# Altium footprint library Posadochnye_mesta.pcblib: 20 footprints (part 1 of 2)
Each footprint in its own frame and in the unit in brackets; x right, y up, seen from the top. Pads: shape width x height; smd on the part's side, far side on the other; paste and mask are expansions set on the pad; w line width, h text height; cw(c..) or ccw(c..) is an arc to the next point about the centre after c.
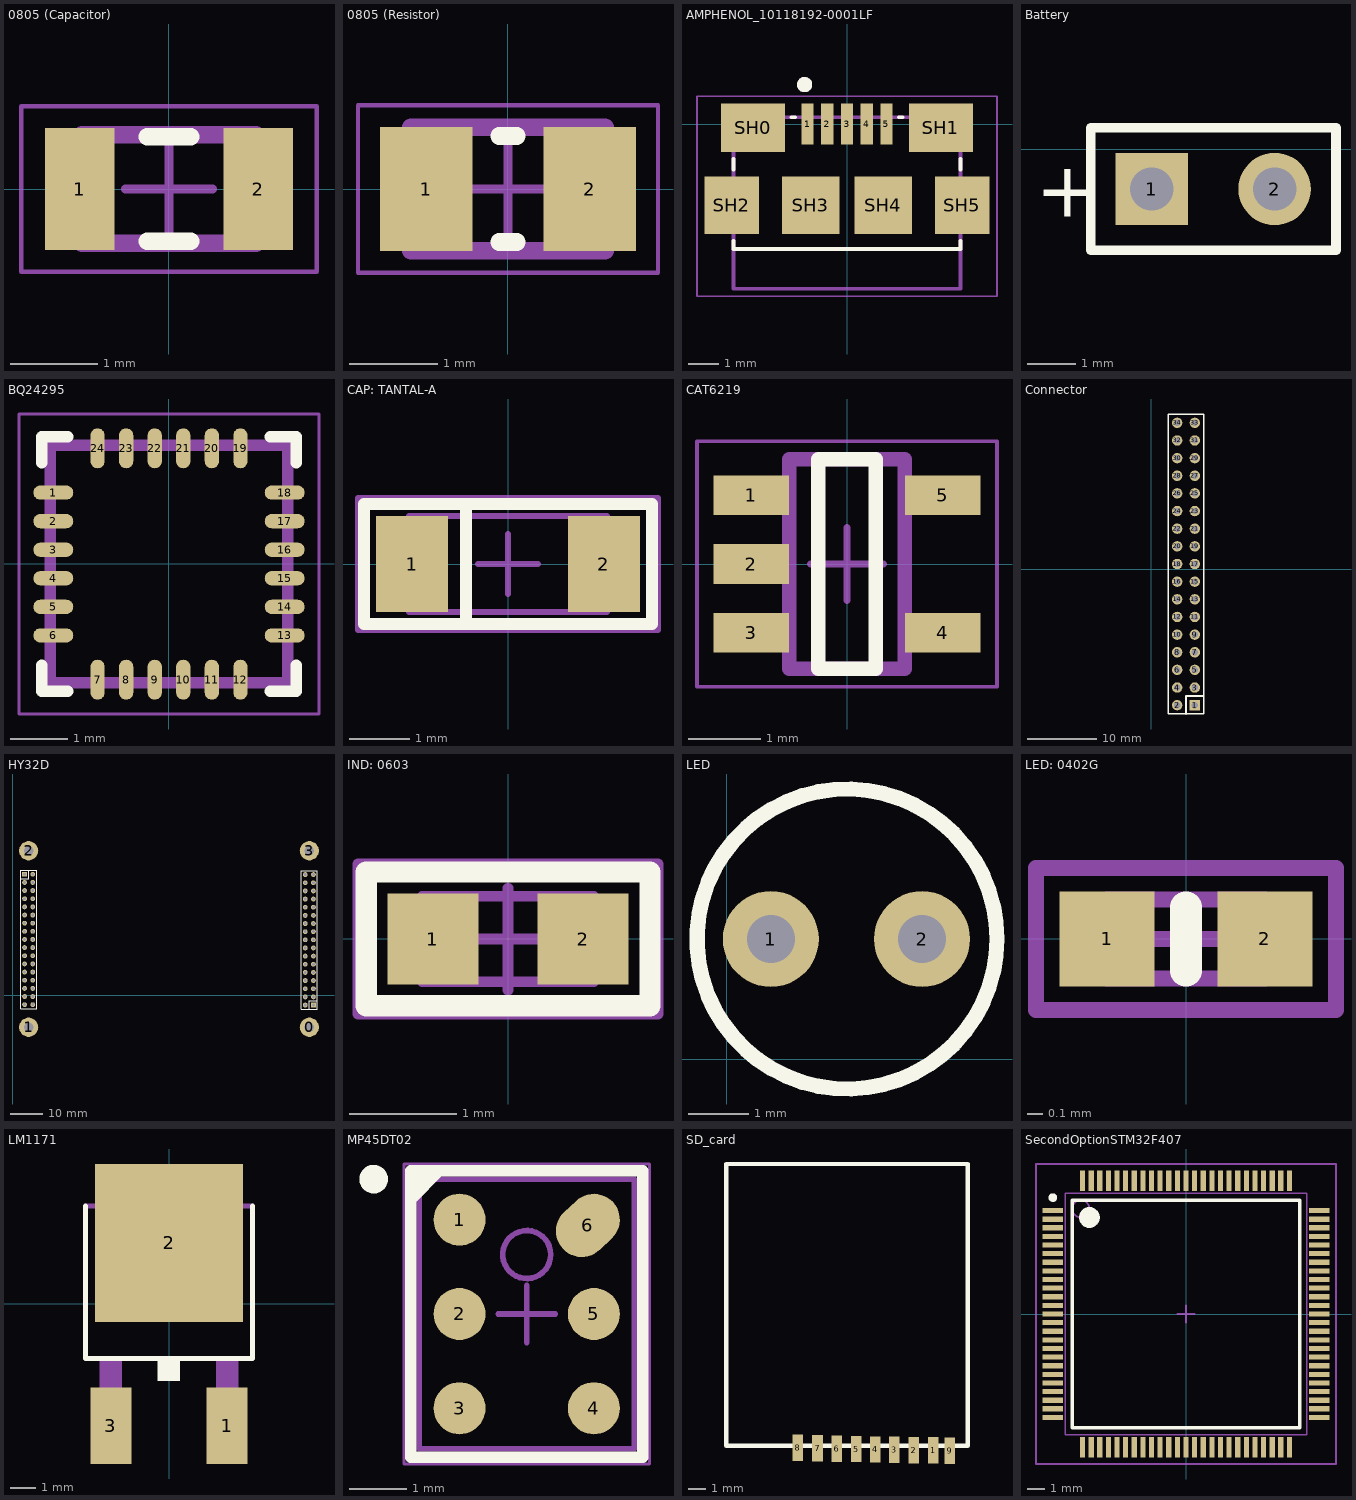
[diagram p0: the footprints below, top view; thin cyan lines are the x and y axes]

## 0805 (Capacitor) [mm] "Chip Capacitor, 2-Leads, Body 2,00x1,25mm, IPC Medium Density"
height 0.8
pads (2):
  rect 0.8x1.4 smd: 1(-1.025,0) 2(1.025,0)
Top Overlay:
  lines w0.2: -0.25,-0.6 0.25,-0.6 ; -0.25,0.6 0.25,0.6
Mechanical 13:
  lines w0.2: -1,-0.625 -1,0.625 1,0.625 1,-0.625 -1,-0.625
Mechanical 15:
  lines w0.05: -1.7,-0.95 -1.7,0.95 1.7,0.95 1.7,-0.95 -1.7,-0.95
  lines w0.1: -0.5,0 0.5,0 ; 0,-0.5 0,0.5
3D body "CAP0805.stp": height 0.78, standoff 0, extent -0.975,-0.625 1.025,0.625

## 0805 (Resistor) [mm] "Chip Resistor, 2-Leads, Body 2,10x1,30mm, IPC Medium Density"
height 0.5
pads (2):
  rect 1.05x1.4 smd: 1(-0.925,0) 2(0.925,0)
Top Overlay:
  lines w0.2: -0.1,-0.6 0.1,-0.6 ; -0.1,0.6 0.1,0.6
Mechanical 13:
  lines w0.2: -1.1,-0.7 1.1,-0.7 1.1,0.7 -1.1,0.7 -1.1,-0.7
Mechanical 15:
  lines w0.05: -1.7,-0.95 1.7,-0.95 1.7,0.95 -1.7,0.95 -1.7,-0.95
  lines w0.1: -0.5,0 0.5,0 ; 0,-0.5 0,0.5
3D body "RES0805.stp": height 0.5, standoff 0, extent -0.975,-0.625 1.025,0.625

## AMPHENOL_10118192-0001LF [mm]
pads (11):
  rect 0.4x1.35 smd: 1(-1.3,0) 2(-0.65,0) 3(0,0) 4(0.65,0) 5(1.3,0)
  rect 2.1x1.6 smd: SH0(-3.1,-0.125) SH1(3.1,-0.125)
  rect 1.8x1.9 smd: SH2(-3.8,-2.675) SH5(3.8,-2.675)
  rect 1.9x1.9 smd: SH3(-1.2,-2.675) SH4(1.2,-2.675)
Top Overlay:
  circle w0.3: c-1.4,1.3 r0.1
  lines w0.127: -3.75,-3.85 -3.75,-4.125 3.75,-4.125 3.75,-3.85 ; -3.75,-1.5 -3.75,-1.15 ; -1.83,0.225 -1.72,0.225 ; 1.72,0.225 1.83,0.225 ; 3.75,-1.5 3.75,-1.15
Mechanical 13:
  circle w0.3: c-1.4,1.3 r0.1
  lines w0.127: -3.75,-4.125 3.75,-4.125 ; -3.75,-4.125 -3.75,0.225 3.75,0.225 3.75,-4.125 ; -3.75,-4.125 -3.75,-5.436 3.75,-5.436 3.75,-4.125
Mechanical 15:
  lines w0.05: -4.95,-5.686 -4.95,0.925 4.95,0.925 4.95,-5.686 -4.95,-5.686
3D body "10118192-0001LF--3DModel-STEP-56544.STEP": height 2.7, standoff -0.27, extent -3.95,-5.41 3.95,0.21

## Battery [mm]
pads (2):
  rect 1.5x1.5 hole 0.9: 1(3.27,-0.818)
  round 1.5 hole 0.9: 2(5.81,-0.818)
Top Overlay:
  lines w0.2: 2,-2.088 2,0.452 7.08,0.452 7.08,-2.088 2,-2.088
  text "+" at 0.87,-1.395 h1.15
3D body "User Library-PLS-1R.step": height 5.85, standoff -2.6, extent 2,-8.168 4.54,0.452
3D body "User Library-PLS-1R.step": height 5.85, standoff -2.6, extent 4.54,-8.168 7.08,0.452

## BQ24295 [mm] "QFN, 24-Leads, Body 4,00x4,00mm, Pitch 0,50mm, Thermal Pad 3,00x3,00mm, IPC Medium Density"
height 0.9
pads (24):
  oval 0.7x0.25 smd: 1(-2.025,1.25) 2(-2.025,0.75) 3(-2.025,0.25) 4(-2.025,-0.25) 5(-2.025,-0.75) 6(-2.025,-1.25) 13(2.025,-1.25) 14(2.025,-0.75) 15(2.025,-0.25) 16(2.025,0.25) 17(2.025,0.75) 18(2.025,1.25)
  oval 0.25x0.7 smd: 7(-1.25,-2.025) 8(-0.75,-2.025) 9(-0.25,-2.025) 10(0.25,-2.025) 11(0.75,-2.025) 12(1.25,-2.025) 19(1.25,2.025) 20(0.75,2.025) 21(0.25,2.025) 22(-0.25,2.025) 23(-0.75,2.025) 24(-1.25,2.025)
Top Overlay:
  lines w0.2: -2.225,-1.775 -2.225,-2.225 -1.775,-2.225 ; -2.225,1.775 -2.225,2.225 -1.775,2.225 ; 1.775,-2.225 2.225,-2.225 2.225,-1.775 ; 1.775,2.225 2.225,2.225 2.225,1.775
Mechanical 13:
  lines w0.2: -2.075,-2.075 2.075,-2.075 2.075,2.075 -2.075,2.075 -2.075,-2.075
Mechanical 15:
  lines w0.05: -2.625,-2.625 -2.625,2.625 2.625,2.625 2.625,-2.625 -2.625,-2.625
3D body "BQ24295.step": height 1, standoff -0.07, extent -2.05,-2.05 2.05,2.05

## CAP: TANTAL-A [mm]
height 1.6
pads (2):
  rect 1.2x1.6 smd: 1(-1.6,0) 2(1.6,0)
Top Overlay:
  lines w0.2: -0.7,-1 -0.7,1 ; -2.4,-1 -2.4,1 2.4,1 2.4,-1 -2.4,-1
Mechanical 1:
  lines w0.1: -0.7,-0.8 -0.7,0.8 ; -1.651,-0.8 -1.651,0.8 1.651,0.8 1.651,-0.8 -1.651,-0.8
Mechanical 15:
  lines w0.1: -0.5,0 0.5,0 ; 0,-0.5 0,0.5 ; -2.5,-1.1 2.5,-1.1 2.5,1.1 -2.5,1.1 -2.5,-1.1
3D body "User Library-AVX_ACASE.STEP": height 1.71, standoff 0, extent -1.7,-0.84 1.7,0.84

## CAT6219 [mm] "SOT23, 5-Leads, Body 2,90x2,80mm, Pitch 0,95mm, IPC Medium Density"
height 1
pads (5):
  rect 1.05x0.55 smd: 1(-1.325,0.95) 2(-1.325,0) 3(-1.325,-0.95) 4(1.325,-0.95) 5(1.325,0.95)
Top Overlay:
  lines w0.2: -0.4,-1.45 -0.4,1.45 0.4,1.45 0.4,-1.45 -0.4,-1.45
Mechanical 13:
  lines w0.2: -0.8,-1.45 0.8,-1.45 0.8,1.45 -0.8,1.45 -0.8,-1.45
Mechanical 15:
  lines w0.05: -2.075,-1.7 2.075,-1.7 2.075,1.7 -2.075,1.7 -2.075,-1.7
  lines w0.1: -0.5,0 0.5,0 ; 0,-0.5 0,0.5
3D body "CAT6219.step": height 1.3, standoff 0, extent -1.5,-1.5 1.5,1.5

## Connector [mm]
pads (34):
  rect 1.5x1.5 hole 0.9: 1(6.25,-19.575)
  round 1.5 hole 0.9: 2(3.71,-19.575) 3(6.25,-17.035) 4(3.71,-17.035) 5(6.25,-14.495) 6(3.71,-14.495) 7(6.25,-11.955) 8(3.71,-11.955) 9(6.25,-9.415) 10(3.71,-9.415) 11(6.25,-6.875) 12(3.71,-6.875) 13(6.25,-4.335) 14(3.71,-4.335) 15(6.25,-1.795) 16(3.71,-1.795) 17(6.25,0.745) 18(3.71,0.745) 19(6.25,3.285) 20(3.71,3.285) 21(6.25,5.825) 22(3.71,5.825) 23(6.25,8.365) 24(3.71,8.365) 25(6.25,10.905) 26(3.71,10.905) 27(6.25,13.445) 28(3.71,13.445) 29(6.25,15.985) 30(3.71,15.985) 31(6.25,18.525) 32(3.71,18.525) 33(6.25,21.065) 34(3.71,21.065)
Top Overlay:
  lines w0.2: 2.44,-20.845 7.52,-20.845 7.52,22.335 2.44,22.335 2.44,-20.845
  lines w0.254: 4.98,-20.845 4.98,-18.27 5,-18.25 7.5,-18.25
3D body "User Library-PLD-xx.step": height 8.4, standoff -3, extent 2.475,-20.85 7.475,22.33

## HY32D [mm]
pads (72):
  round 6 hole 3: 0(92.5,-10) 1(5,-10) 2(5,45) 3(92.5,45)
  rect 1.5x1.5 hole 0.9: 1(3.75,37.675) 1(93.75,-3.075)
  round 1.5 hole 0.9: 2(6.29,37.675) 2(91.21,-3.075) 3(3.75,35.135) 3(93.75,-0.535) 4(6.29,35.135) 4(91.21,-0.535) 5(3.75,32.595) 5(93.75,2.005) 6(6.29,32.595) 6(91.21,2.005) 7(3.75,30.055) 7(93.75,4.545) 8(6.29,30.055) 8(91.21,4.545) 9(3.75,27.515) 9(93.75,7.085) 10(6.29,27.515) 10(91.21,7.085) 11(3.75,24.975) 11(93.75,9.625) 12(6.29,24.975) 12(91.21,9.625) 13(3.75,22.435) 13(93.75,12.165) 14(6.29,22.435) 14(91.21,12.165) 15(3.75,19.895) 15(93.75,14.705) 16(6.29,19.895) 16(91.21,14.705) 17(3.75,17.355) 17(93.75,17.245) 18(6.29,17.355) 18(91.21,17.245) 19(3.75,14.815) 19(93.75,19.785) 20(6.29,14.815) 20(91.21,19.785) 21(3.75,12.275) 21(93.75,22.325) 22(6.29,12.275) 22(91.21,22.325) 23(3.75,9.735) 23(93.75,24.865) 24(6.29,9.735) 24(91.21,24.865) 25(3.75,7.195) 25(93.75,27.405) 26(6.29,7.195) 26(91.21,27.405) 27(3.75,4.655) 27(93.75,29.945) 28(6.29,4.655) 28(91.21,29.945) 29(3.75,2.115) 29(93.75,32.485) 30(6.29,2.115) 30(91.21,32.485) 31(3.75,-0.425) 31(93.75,35.025) 32(6.29,-0.425) 32(91.21,35.025) 33(3.75,-2.965) 33(93.75,37.565) 34(6.29,-2.965) 34(91.21,37.565)
Top Overlay:
  lines w0.2: 2.48,-4.235 2.48,38.945 7.56,38.945 7.56,-4.235 2.48,-4.235 ; 89.94,-4.345 95.02,-4.345 95.02,38.835 89.94,38.835 89.94,-4.345
  lines w0.254: 2.5,36.35 5,36.35 5.02,36.37 5.02,38.945 ; 92.48,-4.345 92.48,-1.77 92.5,-1.75 95,-1.75
3D body "User Library-PLD-xx.step": height 8.4, standoff -3, extent 2.525,-4.23 7.525,38.95
3D body "User Library-PLD-xx.step": height 8.4, standoff -3, extent 89.975,-4.35 94.975,38.83
3D body "HY32D.STEP": height -2.87, standoff -8.9, extent 1.205,-13.67 96.175,48.57

## IND: 0603 [mm]
height 0.8
pads (2):
  rect 0.85x0.85 smd: 1(-0.7,0) 2(0.7,0)
Top Overlay:
  lines w0.2: -1.325,-0.625 1.325,-0.625 1.325,0.625 -1.325,0.625 -1.325,-0.625
Mechanical 1:
  lines w0.1: -0.8,-0.4 0.8,-0.4 0.8,0.4 -0.8,0.4 -0.8,-0.4
Mechanical 15:
  lines w0.1: -0.475,0 0.475,0 ; 0,-0.475 0,0.475 ; -1.4,-0.7 -1.4,0.7 1.4,0.7 1.4,-0.7 -1.4,-0.7
3D body "Chip2PinSM127P600-8N.step": height 0.8, standoff 0, extent -0.8,-0.4 0.8,0.4

## LED [mm]
pads (2):
  round 1.6 hole 0.8: 1(0.73,1.998) 2(3.25,2)
Top Overlay:
  circle w0.254: c2,2 r2.5
3D body "LED.step": height 5.38, standoff -3.17, extent 0.007,0.5 3.993,3.992

## LED: 0402G [mm]
height 0.35
pads (2):
  rect 0.6x0.6 smd: 1(-0.5,0) 2(0.5,0)
Top Overlay:
  lines w0.2: 0,-0.2 0,0.2
Mechanical 1:
  lines w0.1: -0.5,-0.25 -0.5,0.25 0.5,0.25 0.5,-0.25 -0.5,-0.25
Mechanical 15:
  lines w0.1: -0.25,0 0.25,0 ; 0,-0.25 0,0.25 ; -0.95,-0.45 -0.95,0.45 0.95,0.45 0.95,-0.45 -0.95,-0.45
3D body "User Library-led_0402 green.STEP": height 0.45, standoff 0, extent -0.505,-0.25 0.505,0.25

## LM1171 [mm]
pads (3):
  rect 1.6x3 smd: 1(2.28,-4.8) 3(-2.28,-4.8)
  rect 5.8x6.2 smd: 2(0,2.38)
Top Overlay:
  region: 0.432,-3.027 -0.432,-3.027 -0.432,-2.261 0.432,-2.261
  lines w0.203: -3.277,3.835 -3.277,-2.159 3.277,-2.159 3.277,3.835
Mechanical 13:
  region: -1.854,-5.164 -2.722,-5.164 -2.722,-2.261 -1.854,-2.261
  region: 2.718,-5.166 1.858,-5.166 1.858,-2.261 2.718,-2.261
  region: 2.565,4.648 2.565,3.937 -2.565,3.937 -2.565,4.648 -2.108,5.105 2.108,5.105
  lines w0.203: -3.277,3.835 3.277,3.835 ; -2.565,3.937 -2.565,4.648 -2.108,5.105 2.108,5.105 2.565,4.648 2.565,3.937 -2.565,3.937
3D body "LM1117-3.3--3DModel-STEP-56544.STEP": height 1.8, standoff 0, extent -3.25,-3.75 3.25,3.248

## MP45DT02 [mm]
pads (6):
  round 0.91 smd: 1(2.472,-1.517) 2(2.472,-3.167) 3(2.472,-4.817) 4(4.822,-4.817) 5(4.822,-3.167)
  oval 0.91x1.2 smd rot 133.5: 6(4.717,-1.617)
Top Overlay:
  circle w0.25: c0.967,-0.807 r0.125
  region: 2.123,-0.657 1.617,-1.163 1.617,-0.657
  lines w0.2: 1.617,-1.163 2.123,-0.657 ; 1.617,-5.677 5.677,-5.677 5.677,-0.657 1.617,-0.657 1.617,-5.677
Mechanical 13:
  circle w0.1: c3.647,-2.127 r0.42
  lines w0.1: 1.767,-5.527 5.527,-5.527 5.527,-0.807 1.767,-0.807 1.767,-5.527
Mechanical 15:
  lines w0.05: 1.497,-5.792 5.797,-5.792 5.797,-0.542 1.497,-0.542 1.497,-5.792
  lines w0.1: 3.147,-3.167 4.147,-3.167 ; 3.647,-3.667 3.647,-2.667
3D body: height 1.38, standoff 0, extent 3.228,-2.546 4.066,-1.708
3D body: height 1.38, standoff 0, extent 1.767,-5.527 5.527,-0.807

## SD_card [mm]
pads (9):
  rect 0.6x1.5 smd: 1(20.525,-18.025) 2(19.425,-18.025) 3(18.3,-18) 4(17.225,-17.975) 5(16.15,-17.95) 6(15.05,-17.925) 7(13.95,-17.9) 8(12.825,-17.875) 9(21.475,-18.05)
Top Overlay:
  lines w0.254: 8.75,-17.75 22.5,-17.75 22.5,-1.75 8.75,-1.75 8.75,-17.75
3D body "User Library-DM3AT-SF-PEJM5.STEP": height 1.68, standoff 0, extent 8.65,-17.9 22.5,-1.75

## SecondOptionSTM32F407 [mm] "TSQFP, 100-Leads, Body 14,00x14,00mm, Pitch 0,50mm, IPC Medium Density"
height 1.6
pads (100):
  rect 1.2x0.3 smd: 1(-7.725,6) 2(-7.725,5.5) 3(-7.725,5) 4(-7.725,4.5) 5(-7.725,4) 6(-7.725,3.5) 7(-7.725,3) 8(-7.725,2.5) 9(-7.725,2) 10(-7.725,1.5) 11(-7.725,1) 12(-7.725,0.5) 13(-7.725,0) 14(-7.725,-0.5) 15(-7.725,-1) 16(-7.725,-1.5) 17(-7.725,-2) 18(-7.725,-2.5) 19(-7.725,-3) 20(-7.725,-3.5) 21(-7.725,-4) 22(-7.725,-4.5) 23(-7.725,-5) 24(-7.725,-5.5) 25(-7.725,-6) 51(7.725,-6) 52(7.725,-5.5) 53(7.725,-5) 54(7.725,-4.5) 55(7.725,-4) 56(7.725,-3.5) 57(7.725,-3) 58(7.725,-2.5) 59(7.725,-2) 60(7.725,-1.5) 61(7.725,-1) 62(7.725,-0.5) 63(7.725,0) 64(7.725,0.5) 65(7.725,1) 66(7.725,1.5) 67(7.725,2) 68(7.725,2.5) 69(7.725,3) 70(7.725,3.5) 71(7.725,4) 72(7.725,4.5) 73(7.725,5) 74(7.725,5.5) 75(7.725,6)
  rect 0.3x1.2 smd: 26(-6,-7.725) 27(-5.5,-7.725) 28(-5,-7.725) 29(-4.5,-7.725) 30(-4,-7.725) 31(-3.5,-7.725) 32(-3,-7.725) 33(-2.5,-7.725) 34(-2,-7.725) 35(-1.5,-7.725) 36(-1,-7.725) 37(-0.5,-7.725) 38(0,-7.725) 39(0.5,-7.725) 40(1,-7.725) 41(1.5,-7.725) 42(2,-7.725) 43(2.5,-7.725) 44(3,-7.725) 45(3.5,-7.725) 46(4,-7.725) 47(4.5,-7.725) 48(5,-7.725) 49(5.5,-7.725) 50(6,-7.725) 76(6,7.725) 77(5.5,7.725) 78(5,7.725) 79(4.5,7.725) 80(4,7.725) 81(3.5,7.725) 82(3,7.725) 83(2.5,7.725) 84(2,7.725) 85(1.5,7.725) 86(1,7.725) 87(0.5,7.725) 88(0,7.725) 89(-0.5,7.725) 90(-1,7.725) 91(-1.5,7.725) 92(-2,7.725) 93(-2.5,7.725) 94(-3,7.725) 95(-3.5,7.725) 96(-4,7.725) 97(-4.5,7.725) 98(-5,7.725) 99(-5.5,7.725) 100(-6,7.725)
Top Overlay:
  circle w0.25: c-7.725,6.75 r0.125
  circle w0.6: c-5.6,5.6 r0.3
  lines w0.2: -6.6,-6.6 -6.6,6.6 6.6,6.6 6.6,-6.6 -6.6,-6.6
Mechanical 1:
  circle w0.1: c-6.1,6.1 r0.5
  lines w0.1: -7,-7 -7,7 7,7 7,-7 -7,-7
Mechanical 15:
  lines w0.1: -0.5,0 0.5,0 ; 0,-0.5 0,0.5 ; -8.7,-8.7 -8.7,8.7 8.7,8.7 8.7,-8.7 -8.7,-8.7
3D body "SecondOptionSTM32F407.step": height 1.6, standoff 0, extent -8,-8 8,8